# Altium footprint library MEC1-105.PcbLib: 1 footprints
Each footprint in its own frame and in the unit in brackets; x right, y up, seen from the top. Pads: shape width x height; smd on the part's side, far side on the other; paste and mask are expansions set on the pad; w line width, h text height; cw(c..) or ccw(c..) is an arc to the next point about the centre after c.
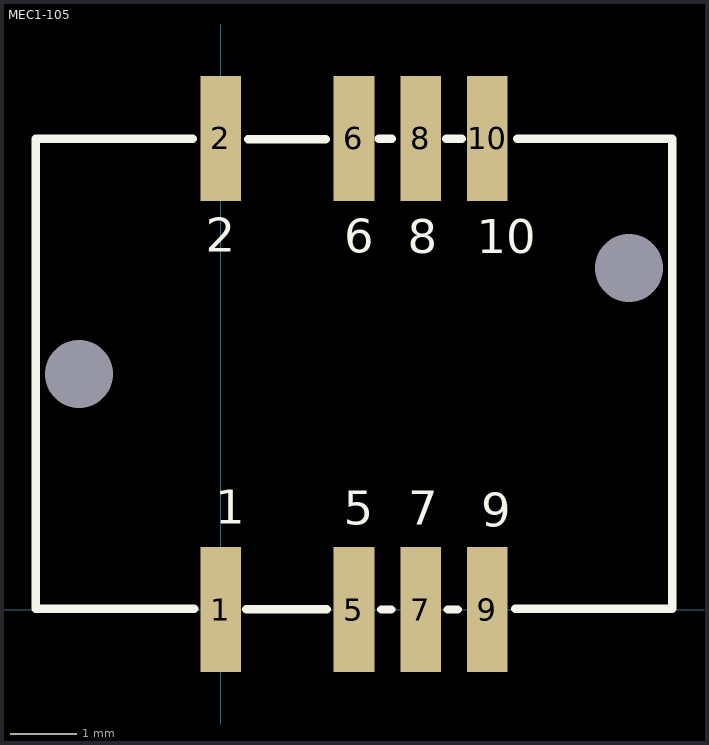
[diagram p0: the footprint, top view; thin cyan lines are the x and y axes]

## MEC1-105 [mil]
height 350
pads (10):
  rect 24x74 smd: 1(0,0) 2(0,278) 5(78.74,0) 6(78.74,278) 7(118.11,0) 8(118.11,278) 9(157.48,0) 10(157.48,278)
  rect 1x1 hole 40: MH1(-83.56,139) MH2(241.03,201.5)
TopOverlay:
  lines w5: -16.3,277.74 -109.06,277.74 -109.06,0.38 -15.56,0.38 ; 15.19,0.1 62.65,0.1 ; 16.17,277.66 62.15,277.66 ; 93.39,277.74 101.17,277.74 ; 94.87,0.01 100.8,0.01 ; 133.06,277.74 142.33,277.74 ; 134.18,0.01 140.11,0.01 ; 173.85,0.38 266.54,0.38 266.54,277.74 174.96,277.74
  text "1" at -3.12,50.52 h20
  text "2" at -8.82,211.01 h20
  text "5" at 72.74,50.08 h20
  text "6" at 73.08,210.57 h20
  text "7" at 110.89,50.08 h20
  text "8" at 110.45,210.13 h20
  text "9" at 153.86,48.77 h20
  text "10" at 151.23,210.13 h20
3D body: height 356.6, standoff -58.4, extent -109.51,-30.6 266.06,304.47